# Altium footprint library Protel 99SE BANKS PCB.PCBLIB: 278 footprints (part 3 of 18)
Each footprint in its own frame and in the unit in brackets; x right, y up, seen from the top. Pads: shape width x height; smd on the part's side, far side on the other; paste and mask are expansions set on the pad; w line width, h text height; cw(c..) or ccw(c..) is an arc to the next point about the centre after c.
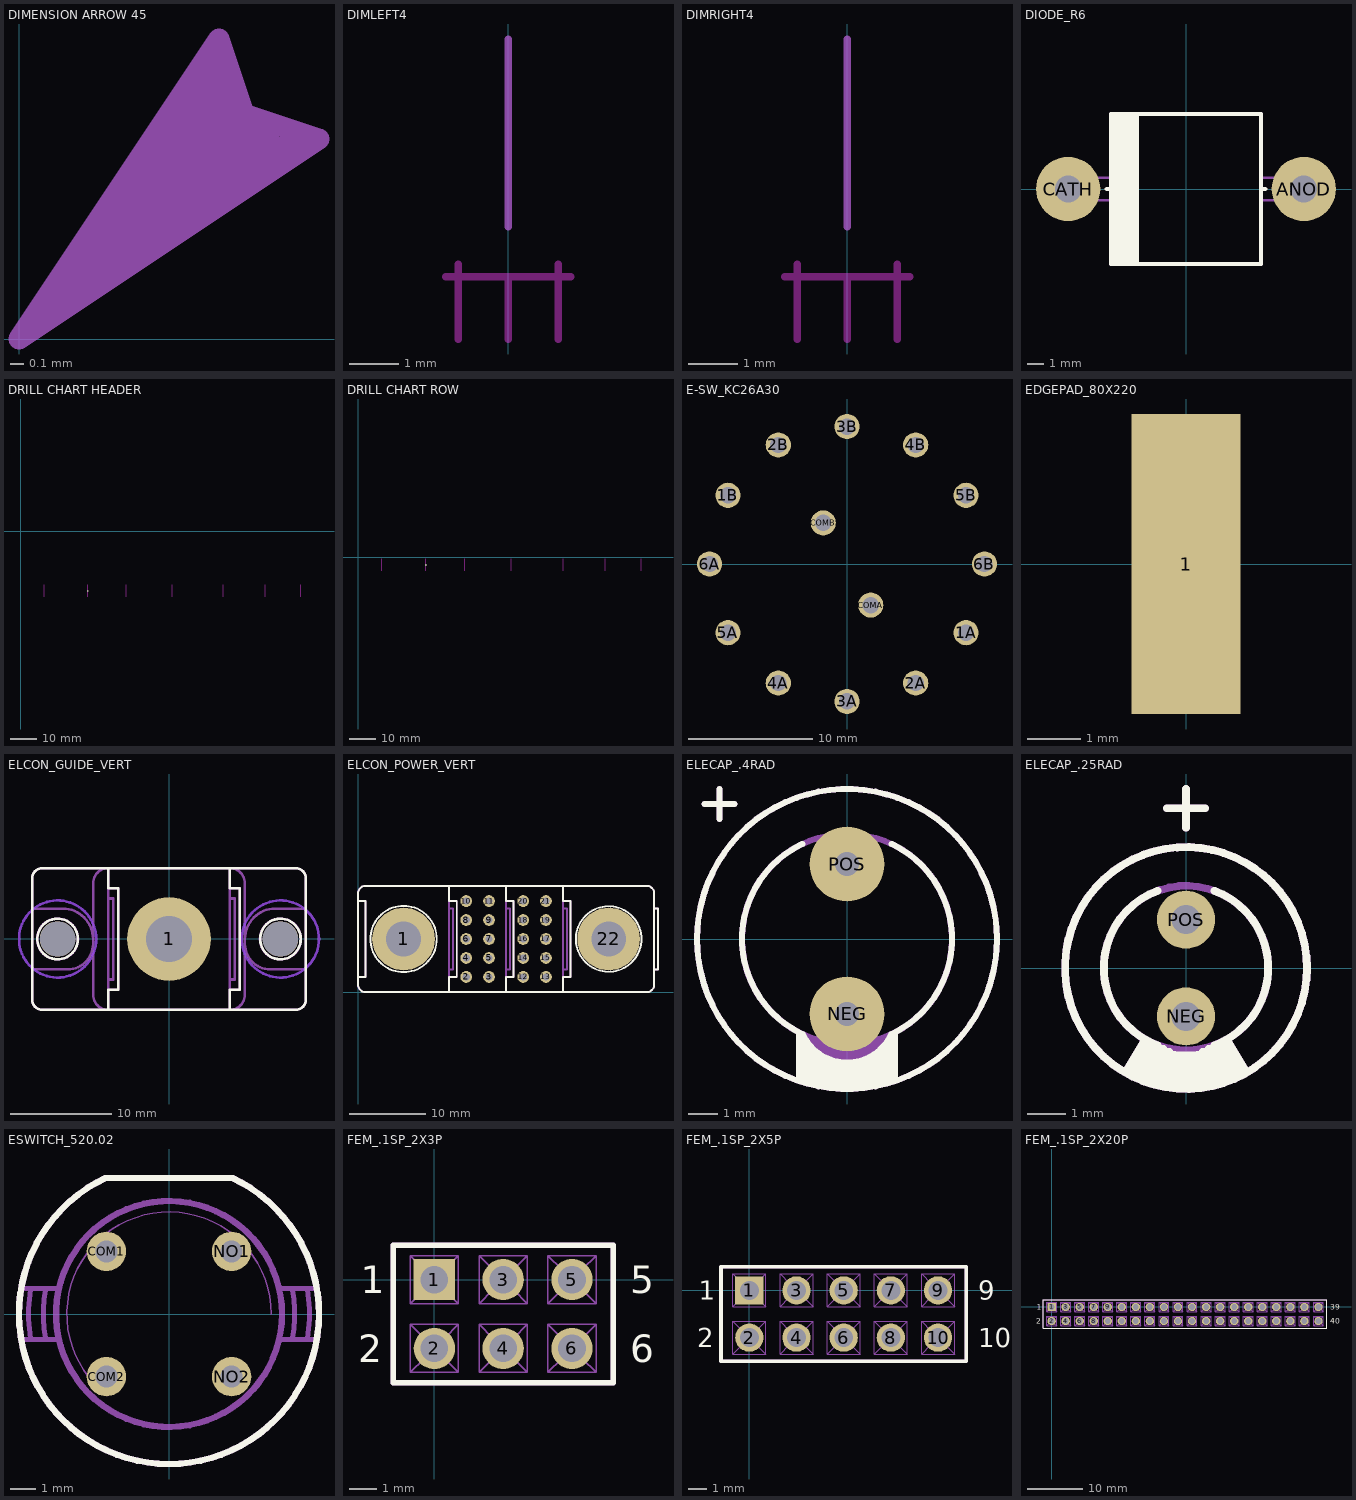
[diagram p2: the footprints below, top view; thin cyan lines are the x and y axes]

## DIMENSION ARROW 45 [mil]
Mechanical2:
  lines w6: 56.57,70.71 0,0 ; 56.57,77.78 0,0 ; 60.1,67.18 0,0 ; 67.18,60.1 0,0 ; 70.71,56.57 0,0 ; 77.78,56.57 0,0 ; 0,0 63.64,63.64 ; 0,0 84.85,56.57 63.64,63.64 ; 0,0 56.57,84.85 63.64,63.64

## DIMLEFT4 [mil]
KeepOutLayer:
  lines w6: -50,-215 50,-215 ; -40,-265 -40,-205 ; 0,-265 0,-215 ; 40,-265 40,-205
Mechanical2:
  lines w6: 0,-175 0,-25
  text "3.540" at 40,-507 h80

## DIMRIGHT4 [mil]
KeepOutLayer:
  lines w6: -50,-215 50,-215 ; -40,-265 -40,-205 ; 0,-265 0,-215 ; 40,-265 40,-205
Mechanical2:
  lines w6: 0,-175 0,-25
  text "3.540" at -40,-215 h80

## DIODE_R6 [mil]
pads (2):
  round 150 hole 62: ANOD(275,0) CATH(-275,0)
TopOverlay:
  lines w10: -185,0 -175,0 ; -170,-175 -170,175 ; -165,-175 -165,175 ; -160,-175 -160,175 ; -155,-175 -155,175 ; -150,-175 -150,175 ; -145,-175 -145,175 ; -140,-175 -140,175 ; -135,-175 -135,175 ; -130,-175 -130,175 ; -125,-175 -125,175 ; -120,-175 -120,175 ; -115,-175 -115,175 ; 175,0 185,0 ; -175,-175 175,-175 175,175 -175,175 -175,-175
Mechanical3:
  lines w6: -175,-26 -275,-26 cw(c-275,0) -275,26 -175,26 ; 175,-26 275,-26 ccw(c275,0) 275,26 175,26
  lines w10: -170,-175 -170,175 ; -165,-175 -165,175 ; -160,-175 -160,175 ; -155,-175 -155,175 ; -150,-175 -150,175 ; -145,-175 -145,175 ; -140,-175 -140,175 ; -135,-175 -135,175 ; -130,-175 -130,175 ; -125,-175 -125,175 ; -120,-175 -120,175 ; -115,-175 -115,175 ; -175,-175 175,-175 175,175 -175,175 -175,-175

## DRILL CHART HEADER [mil]
pads (1):
  round 24 hole 20: ""(1000,-890)
KeepOutLayer:
  lines w6: 350,-975 350,-800 ; 1000,-975 1000,-800 ; 1575,-975 1575,-800 ; 2263,-975 2263,-800 ; 3025,-975 3025,-800 ; 3650,-975 3650,-800 ; 4175,-975 4175,-800
DrillDrawing:
  drawing of 440 lines, arcs and shapes, not listed
  text "-" at 1540,-925 h75
  text ".020" at 240,-925 h75
  text "T01" at 3565,-925 h75
  text "PLATED" at 2080,-925 h75
  text "-" at 4145,-925 h75
  text "REF LTR" at 1375,-700 h75
  text "**  ALL DIMENSIONS AND TOLERANCES ARE IN INCHES (IN)  **" at 575,-475 h75
  text "QTY" at 4080,-700 h75
  text "TOOL#" at 3495,-700 h75
  text "DIAMETER" at 120,-700 h75
  text "SYMBOL" at 800,-700 h75
  text "PLATING" at 2065,-700 h75
  text "TOLERANCE" at 2730,-700 h75
  text "+/- .004" at 2770,-925 h75

## DRILL CHART ROW [mil]
pads (1):
  round 24 hole 20: ""(1000,-115)
KeepOutLayer:
  lines w6: 350,-200 350,-25 ; 1000,-200 1000,-25 ; 1575,-200 1575,-25 ; 2263,-200 2263,-25 ; 3025,-200 3025,-25 ; 3650,-200 3650,-25 ; 4175,-200 4175,-25
DrillDrawing:
  lines w8: 25,0 4400,0
  lines w14: 0,-150 ccw(c50,-150) 50,-200 650,-200 ccw(c650,-150) 700,-150 700,-75 ccw(c650,-75) 650,-25 50,-25 ccw(c50,-75) 0,-75 0,-150 ; 725,-150 ccw(c775,-150) 775,-200 1225,-200 ccw(c1225,-150) 1275,-150 1275,-75 ccw(c1225,-75) 1225,-25 775,-25 ccw(c775,-75) 725,-75 725,-150 ; 1300,-150 ccw(c1350,-150) 1350,-200 1800,-200 ccw(c1800,-150) 1850,-150 1850,-75 ccw(c1800,-75) 1800,-25 1350,-25 ccw(c1350,-75) 1300,-75 1300,-150 ; 1875,-150 ccw(c1925,-150) 1925,-200 2600,-200 ccw(c2600,-150) 2650,-150 2650,-75 ccw(c2600,-75) 2600,-25 1925,-25 ccw(c1925,-75) 1875,-75 1875,-150 ; 2675,-150 ccw(c2725,-150) 2725,-200 3325,-200 ccw(c3325,-150) 3375,-150 3375,-75 ccw(c3325,-75) 3325,-25 2725,-25 ccw(c2725,-75) 2675,-75 2675,-150 ; 3400,-150 ccw(c3450,-150) 3450,-200 3850,-200 ccw(c3850,-150) 3900,-150 3900,-75 ccw(c3850,-75) 3850,-25 3450,-25 ccw(c3450,-75) 3400,-75 3400,-150 ; 3925,-150 ccw(c3975,-150) 3975,-200 4375,-200 ccw(c4375,-150) 4425,-150 4425,-75 ccw(c4375,-75) 4375,-25 3975,-25 ccw(c3975,-75) 3925,-75 3925,-150
  text "-" at 1540,-150 h75
  text ".020" at 240,-150 h75
  text "T01" at 3565,-150 h75
  text "PLATED" at 2080,-150 h75
  text "-" at 4145,-150 h75
  text "+/- .004" at 2770,-150 h75

## E-SW_KC26A30 [mil]
pads (14):
  round 80 hole 52: 1A(378.45,-218.5) 1B(-378.45,218.5) 2A(218.5,-378.45) 2B(-218.5,378.45) 3A(0,-437) 3B(0,437) 4A(-218.5,-378.45) 4B(218.5,378.45) 5A(-378.45,-218.5) 5B(378.45,218.5) 6A(-437,0) 6B(437,0) COMA(75.5,-130.77) COMB(-75.5,130.77)

## EDGEPAD_80X220 [mil]
pads (1):
  rect 80x220 smd: 1(0,0)

## ELCON_GUIDE_VERT [mm]
pads (3):
  round 8.255 hole 4.572: 1(0,0)
  round 3.5 hole 3.5 unplated: ""(-11,0) ""(11,0)
BottomLayer keep-out:
  circle w0.254: c-11,0 r3.81
  circle w0.254: c11,0 r3.81
TopOverlay:
  circle w0.254: c-11,0 r2
  circle w0.254: c11,0 r2
  circle w0.254: c6,-5 r0
  circle w0.254: c7,-5 r0
  circle w0.254: c7,5 r0
  circle w0.254: c6,5 r0
  circle w0.254: c-6,-5 r0
  circle w0.254: c-5,-5 r0
  circle w0.254: c-5,5 r0
  circle w0.254: c-6,5 r0
  lines w0.254: -6,-7 -6,-5 -5,-5 -5,5 -6,5 -6,7 ; 6,-7 6,-5 7,-5 7,5 6,5 6,7 ; -13.5,-6 ccw(c-12.5,-6) -12.5,-7 12.5,-7 ccw(c12.5,-6) 13.5,-6 13.5,6 ccw(c12.5,6) 12.5,7 -12.5,7 ccw(c-12.5,6) -13.5,6 -13.5,-6
Mechanical3:
  circle w0.254: c11,0 r2.016
  circle w0.254: c-11,0 r2.016
  lines w0.254: -13.5,-3 -10,-3 ccw(c-10,-0.5) -7.5,-0.5 -7.5,0 ccw(c-10.5,0) -10.5,3 -13.5,3 ; -6,-5 -5,-5 -5,5 -6,5 ; -6,-4 -5.5,-4 -5.5,4 -6,4 ; 6,-5 7,-5 7,5 6,5 ; 6,-4 6.5,-4 6.5,4 6,4 ; 13.5,-3 10,-3 cw(c10,-0.5) 7.5,-0.5 7.5,0 cw(c10.5,0) 10.5,3 13.5,3 ; 6,-7 ccw(c6,-5.5) 7.5,-5.5 7.5,5.5 ccw(c6,5.5) 6,7 ; 6,-7 6,7 ; 6,-7 6,7 ; -13.5,-6 ccw(c-12.5,-6) -12.5,-7 12.5,-7 ccw(c12.5,-6) 13.5,-6 13.5,6 ccw(c12.5,6) 12.5,7 -12.5,7 ccw(c-12.5,6) -13.5,6 -13.5,-6 ; -7.5,-5.5 ccw(c-6,-5.5) -6,-7 -6,7 ccw(c-6,5.5) -7.5,5.5 -7.5,-5.5

## ELCON_POWER_VERT [mm]
pads (22):
  round 8.255 hole 4.572: 1(6,7) 22(33,7)
  round 1.56 hole 0.94: 2(14.25,2) 3(17.25,2) 4(14.25,4.5) 5(17.25,4.5) 6(14.25,7) 7(17.25,7) 8(14.25,9.5) 9(17.25,9.5) 10(14.25,12) 11(17.25,12) 12(21.75,2) 13(24.75,2) 14(21.75,4.5) 15(24.75,4.5) 16(21.75,7) 17(24.75,7) 18(21.75,9.5) 19(24.75,9.5) 20(21.75,12) 21(24.75,12)
TopOverlay:
  circle w0.254: c33,7 r4.316
  circle w0.254: c6,7 r4.366
  circle w0.254: c12,2 r0
  circle w0.254: c12,12 r0
  circle w0.254: c0,2 r0
  circle w0.254: c1,2 r0
  circle w0.254: c1,12 r0
  circle w0.254: c0,12 r0
  circle w0.254: c39,2 r0
  circle w0.254: c39,12 r0
  circle w0.254: c27,2 r0
  circle w0.254: c28,2 r0
  circle w0.254: c28,12 r0
  circle w0.254: c27,12 r0
  circle w0.254: c12,2 r0
  circle w0.254: c13,2 r0
  circle w0.254: c13,12 r0
  circle w0.254: c12,12 r0
  circle w0.254: c19.5,2 r0
  circle w0.254: c20.5,2 r0
  circle w0.254: c20.5,12 r0
  circle w0.254: c19.5,12 r0
  circle w0.254: c39,2 r0
  circle w0.254: c39,12 r0
  lines w0.254: 0,2 1,2 1,12 0,12 ; 12,0 12,2 13,2 13,12 12,12 12,14 ; 19.5,0 19.5,2 20.5,2 20.5,12 19.5,12 19.5,14 ; 27,0 27,2 28,2 28,12 27,12 27,14 ; 39,3 39.5,3 39.5,11 39,11 ; 0,1 ccw(c1,1) 1,0 38,0 ccw(c38,1) 39,1 39,13 ccw(c38,13) 38,14 1,14 ccw(c1,13) 0,13 0,1
Mechanical3:
  circle w0.254: c38,14 r0
  circle w0.254: c19.5,0 r0
  lines w0.254: 0,2 1,2 1,12 0,12 ; 12,2 13,2 13,12 12,12 ; 12,3 12.5,3 12.5,11 12,11 ; 19.5,2 20.5,2 20.5,12 19.5,12 ; 19.5,3 20,3 20,11 19.5,11 ; 27,2 28,2 28,12 27,12 ; 27,3 27.5,3 27.5,11 27,11 ; 39,3 39.5,3 39.5,11 39,11 ; 12,0 1,0 cw(c1,1) 0,1 0,13 cw(c1,13) 1,14 12,14 ; 12,0 12,14 ; 12,0 12,14 ; 12,0 19.5,0 ; 12,14 19.5,14 ; 19.5,0 19.5,14 ; 19.5,0 27,0 ; 19.5,14 27,14 ; 27,0 38,0 ccw(c38,1) 39,1 39,13 ccw(c38,13) 38,14 27,14 ; 27,0 27,14 ; 27,0 27,14

## ELECAP_.4RAD [mil]
pads (2):
  round 100 hole 32: NEG(0,-100) POS(0,100)
TopOverlay:
  circle w8: c0,0 r200
  rectangle: -65,-189 65,-164
  lines w6: -65,-189 65,-189 ; -65,-188 -65,-125 ; -65,-164 -18,-164 ; -64,-161 -26,-161 ; -64,-158 -33,-158 ; -64,-155 -37,-155 ; -64,-152 -41,-152 ; -64,-149 -44,-149 ; -64,-143 -50,-143 ; -64,-140 -53,-140 ; -64,-137 -55,-137 ; -64,-134 -57,-134 ; -64,-131 -58,-131 ; -63,-146 -49,-146 ; -57,-192 57,-192 ; -45,-195 44,-195 ; -27,-198 27,-198 ; 18,-164 65,-164 ; 26,-161 64,-161 ; 33,-158 64,-158 ; 37,-155 64,-155 ; 41,-152 64,-152 ; 44,-149 64,-149 ; 49,-146 63,-146 ; 50,-143 64,-143 ; 53,-140 64,-140 ; 55,-137 64,-137 ; 57,-134 64,-134 ; 58,-131 64,-131 ; 65,-188 65,-125
  lines w8: -190,180 -150,180 ; -170,160 -170,200 ; -59.17,-126.88 cw(c0,0) -59.17,126.88 ; -59.07,-126.85 ccw(c0,-100) 59.1,-126.78 ; 59.17,-126.88 ccw(c0,0) 59.17,126.88
Mechanical3:
  circle w8: c0,0 r140
  circle w8: c0,0 r200
  rectangle: -65,-189 65,-140
  lines w6: -65,-188 -65,-125 ; -65,-140 -18,-140 ; -64,-134 -43,-134 ; -63,-137 -30,-137 ; -63,-131 -50,-131 ; -63,-128 -59,-128 ; -61,-189 0,-189 61,-189 ; -57,-192 0,-192 57,-192 ; -44,-195 0,-195 44,-195 ; -28,-198 0,-198 28,-198 ; 18,-140 63,-140 ; 30,-137 63,-137 ; 43,-134 64,-134 ; 50,-131 63,-131 ; 59,-128 63,-128 ; 65,-188 65,-125
  lines w8: -190,180 -150,180 ; -170,160 -170,200

## ELECAP_.25RAD [mil]
pads (2):
  round 60 hole 30: NEG(0,-50) POS(0,50)
TopOverlay:
  circle w8: c0,0 r125
  lines w7: -63,-108 -43,-74 ; -62,-108 62,-108 ; -59,-105 59,-105 ; -58,-102 58,-102 ; -55,-99 56,-99 ; -54,-112 53,-112 ; -54,-95 54,-95 ; -51,-92 51,-92 ; -51,-89 -12,-89 ; -47,-83 -23,-83 ; -45,-86 -17,-86 ; -45,-79 -33,-79 ; -42,-116 44,-116 ; -35,-119 35,-119 ; -22,-122 21,-122 ; -19,-90 16,-90 ; -11,-91 13,-91 ; 12,-89 50,-89 ; 17,-86 45,-86 ; 23,-83 46,-83 ; 34,-79 44,-79 ; 43,-74 63,-108
  lines w8: -29.07,-79.87 cw(c0,0) -29.07,79.87 ; -20,165 20,165 ; 0,145 0,185 ; 29.07,-79.87 ccw(c0,0) 29.07,79.87
Mechanical3:
  circle w8: c0,0 r85
  circle w8: c0,0 r125
  lines w7: -63,-108 -43,-74 ; -62,-108 62,-108 ; -59,-105 59,-105 ; -58,-102 58,-102 ; -55,-99 56,-99 ; -54,-112 53,-112 ; -54,-95 54,-95 ; -51,-92 51,-92 ; -51,-89 50,-89 ; -48,-86 48,-86 ; -47,-83 -19,-83 ; -45,-79 -33,-79 ; -42,-116 44,-116 ; -35,-119 35,-119 ; -22,-122 21,-122 ; 25,-83 46,-83 ; 34,-79 44,-79 ; 43,-74 63,-108
  lines w8: -20,165 20,165 ; 0,145 0,185

## ESWITCH_520.02 [mil]
pads (4):
  round 62 hole 35: COM1(-98,98) COM2(-98,-98) NO1(98,98) NO2(98,-98)
TopOverlay:
  lines w10: -99.32,212.98 ccw(c0,0) 99.32,212.98 ; -99,213 99,213
Mechanical3:
  circle w10: c0,0 r177
  lines w2: -96,-128 cw(c0,0) 160,0
  lines w8: -231,-40 -173,-40 ; -231,40 -173,40 ; -216.66,-38.2 cw(c0,0) -216.66,38.2 ; -193.38,-37.59 cw(c0,0) -193.38,37.59 ; 173,-40 231,-40 ; 173,40 231,40 ; 193.38,-37.59 ccw(c0,0) 193.38,37.59 ; 216.66,-38.2 ccw(c0,0) 216.66,38.2
  lines w10: -99.32,212.98 ccw(c0,0) 99.32,212.98 ; -99,213 99,213

## FEM_.1SP_2X3P [mil]
pads (6):
  rect 60x60 hole 40: 1(0,0)
  round 60 hole 40: 2(0,-100) 3(100,0) 4(100,-100) 5(200,0) 6(200,-100)
TopOverlay:
  lines w8: -60,-150 -60,50 260,50 260,-150 -60,-150
  text "6" at 285,-120 h40
  text "1" at -107,-20 h40
  text "2" at -111,-120 h40
  text "5" at 285,-20 h40
Mechanical3:
  lines w2: -15,-115 -35,-135 ; -15,-85 -35,-65 ; -15,-15 -35,-35 ; -15,15 -35,35 ; 15,-115 35,-135 ; 15,-85 35,-65 ; 15,-15 35,-35 ; 15,15 35,35 ; 85,-115 65,-135 ; 85,-85 65,-65 ; 85,-15 65,-35 ; 85,15 65,35 ; 115,-115 135,-135 ; 115,-85 135,-65 ; 115,-15 135,-35 ; 115,15 135,35 ; 185,-115 165,-135 ; 185,-85 165,-65 ; 185,-15 165,-35 ; 185,15 165,35 ; 215,-115 235,-135 ; 215,-85 235,-65 ; 215,-15 235,-35 ; 215,15 235,35 ; -35,-135 -35,-65 ; -35,-135 35,-135 ; -35,-65 35,-65 ; -35,-35 -35,35 ; -35,-35 35,-35 ; -35,35 35,35 ; 35,-135 35,-65 ; 35,-35 35,35 ; 65,-135 65,-65 ; 65,-135 135,-135 ; 65,-65 135,-65 ; 65,-35 65,35 ; 65,-35 135,-35 ; 65,35 135,35 ; 135,-135 135,-65 ; 135,-35 135,35 ; 165,-135 165,-65 ; 165,-135 235,-135 ; 165,-65 235,-65 ; 165,-35 165,35 ; 165,-35 235,-35 ; 165,35 235,35 ; 235,-135 235,-65 ; 235,-35 235,35
  lines w4: -15,-115 -15,-85 15,-85 15,-115 -15,-115 ; -15,-15 -15,15 15,15 15,-15 -15,-15 ; 85,-115 85,-85 115,-85 115,-115 85,-115 ; 85,-15 85,15 115,15 115,-15 85,-15 ; 185,-115 185,-85 215,-85 215,-115 185,-115 ; 185,-15 185,15 215,15 215,-15 185,-15
  lines w8: -60,-150 -60,50 260,50 260,-150 -60,-150

## FEM_.1SP_2X5P [mil]
pads (10):
  rect 60x60 hole 40: 1(0,0)
  round 60 hole 40: 2(0,-100) 3(100,0) 4(100,-100) 5(200,0) 6(200,-100) 7(300,0) 8(300,-100) 9(400,0) 10(400,-100)
TopOverlay:
  lines w8: -60,-150 460,-150 460,50 -60,50 -60,-150
  text "9" at 485,-20 h40
  text "2" at -111,-120 h40
  text "1" at -107,-20 h40
  text "10" at 485,-120 h40
Mechanical3:
  lines w2: -15,-115 -35,-135 ; -15,-85 -35,-65 ; -15,-15 -35,-35 ; -15,15 -35,35 ; 15,-115 35,-135 ; 15,-85 35,-65 ; 15,-15 35,-35 ; 15,15 35,35 ; 85,-115 65,-135 ; 85,-85 65,-65 ; 85,-15 65,-35 ; 85,15 65,35 ; 115,-115 135,-135 ; 115,-85 135,-65 ; 115,-15 135,-35 ; 115,15 135,35 ; 185,-115 165,-135 ; 185,-85 165,-65 ; 185,-15 165,-35 ; 185,15 165,35 ; 215,-115 235,-135 ; 215,-85 235,-65 ; 215,-15 235,-35 ; 215,15 235,35 ; 285,-115 265,-135 ; 285,-85 265,-65 ; 285,-15 265,-35 ; 285,15 265,35 ; 315,-115 335,-135 ; 315,-85 335,-65 ; 315,-15 335,-35 ; 315,15 335,35 ; 385,-115 365,-135 ; 385,-85 365,-65 ; 385,-15 365,-35 ; 385,15 365,35 ; 415,-115 435,-135 ; 415,-85 435,-65 ; 415,-15 435,-35 ; 415,15 435,35 ; -35,-135 35,-135 ; -35,-135 -35,-65 ; -35,-65 35,-65 ; -35,-35 35,-35 ; -35,-35 -35,35 ; -35,35 35,35 ; 35,-135 35,-65 ; 35,-35 35,35 ; 65,-135 135,-135 ; 65,-135 65,-65 ; 65,-65 135,-65 ; 65,-35 135,-35 ; 65,-35 65,35 ; 65,35 135,35 ; 135,-135 135,-65 ; 135,-35 135,35 ; 165,-135 235,-135 ; 165,-135 165,-65 ; 165,-65 235,-65 ; 165,-35 235,-35 ; 165,-35 165,35 ; 165,35 235,35 ; 235,-135 235,-65 ; 235,-35 235,35 ; 265,-135 335,-135 ; 265,-135 265,-65 ; 265,-65 335,-65 ; 265,-35 335,-35 ; 265,-35 265,35 ; 265,35 335,35 ; 335,-135 335,-65 ; 335,-35 335,35 ; 365,-135 435,-135 ; 365,-135 365,-65 ; 365,-65 435,-65 ; 365,-35 435,-35 ; 365,-35 365,35 ; 365,35 435,35 ; 435,-135 435,-65 ; 435,-35 435,35
  lines w4: -15,-115 15,-115 15,-85 -15,-85 -15,-115 ; -15,-15 15,-15 15,15 -15,15 -15,-15 ; 85,-115 115,-115 115,-85 85,-85 85,-115 ; 85,-15 115,-15 115,15 85,15 85,-15 ; 185,-115 215,-115 215,-85 185,-85 185,-115 ; 185,-15 215,-15 215,15 185,15 185,-15 ; 285,-115 315,-115 315,-85 285,-85 285,-115 ; 285,-15 315,-15 315,15 285,15 285,-15 ; 385,-115 415,-115 415,-85 385,-85 385,-115 ; 385,-15 415,-15 415,15 385,15 385,-15
  lines w8: -60,-150 460,-150 460,50 -60,50 -60,-150

## FEM_.1SP_2X20P [mil]
pads (40):
  rect 60x60 hole 40: 1(0,0)
  round 60 hole 40: 2(0,-100) 3(100,0) 4(100,-100) 5(200,0) 6(200,-100) 7(300,0) 8(300,-100) 9(400,0) 10(400,-100) 11(500,0) 12(500,-100) 13(600,0) 14(600,-100) 15(700,0) 16(700,-100) 17(800,0) 18(800,-100) 19(900,0) 20(900,-100) 21(1000,0) 22(1000,-100) 23(1100,0) 24(1100,-100) 25(1200,0) 26(1200,-100) 27(1300,0) 28(1300,-100) 29(1400,0) 30(1400,-100) 31(1500,0) 32(1500,-100) 33(1600,0) 34(1600,-100) 35(1700,0) 36(1700,-100) 37(1800,0) 38(1800,-100) 39(1900,0) 40(1900,-100)
TopOverlay:
  lines w8: -60,-150 -60,50 1960,50 1960,-150 -60,-150
  text "40" at 1985,-120 h40
  text "1" at -107,-20 h40
  text "2" at -111,-120 h40
  text "39" at 1985,-20 h40
Mechanical3:
  drawing of 484 lines, arcs and shapes, not listed